# EAGLE library part AT91SAM7S*-MU (library X893)
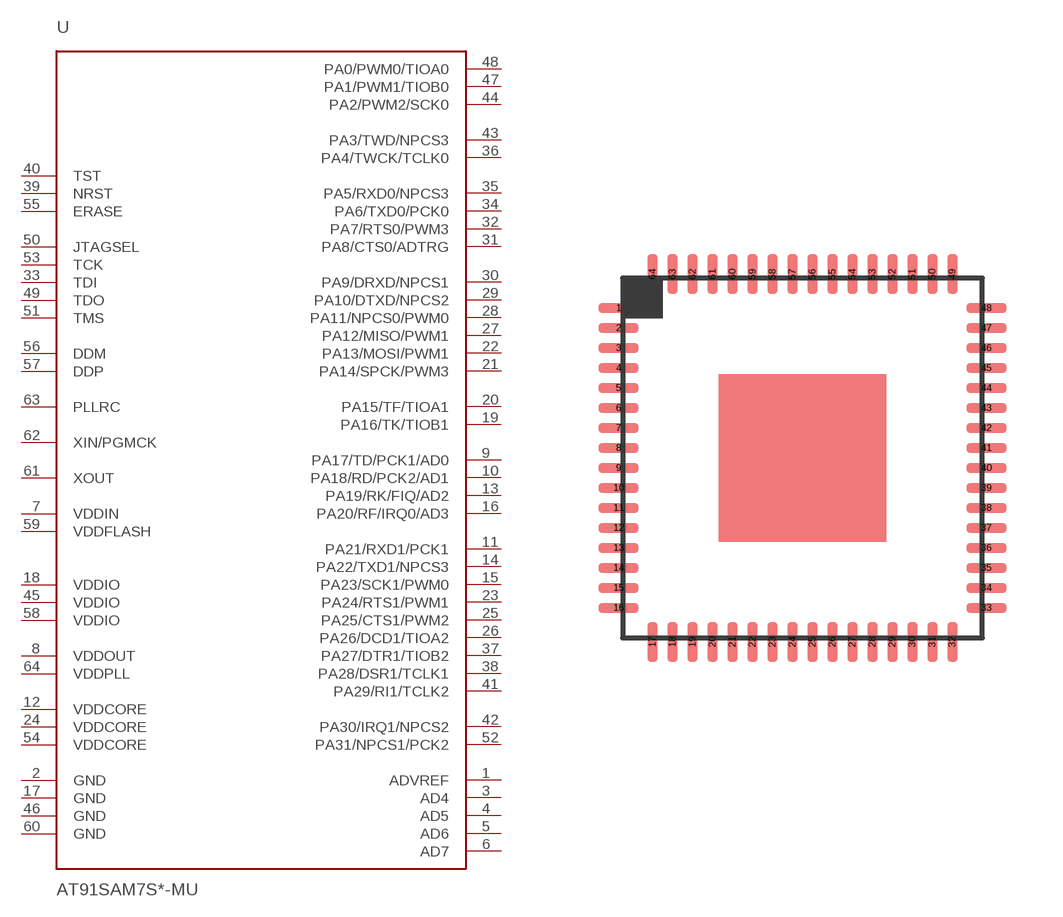
[diagram p61: symbol with the pads of QFN64-9X9; footprint QFN64-9X9]

Designator prefix U

## AT91SAM7S-MU  [QFN64-9X9]
1  ADVREF
2  GND  pwr
3  AD4
4  AD5
5  AD6
6  AD7
7  VDDIN
8  VDDOUT
9  PA17/TD/PCK1/AD0
10  PA18/RD/PCK2/AD1
11  PA21/RXD1/PCK1
12  VDDCORE
13  PA19/RK/FIQ/AD2
14  PA22/TXD1/NPCS3
15  PA23/SCK1/PWM0
16  PA20/RF/IRQ0/AD3
17  GND  pwr
18  VDDIO
19  PA16/TK/TIOB1
20  PA15/TF/TIOA1
21  PA14/SPCK/PWM3
22  PA13/MOSI/PWM1
23  PA24/RTS1/PWM1
24  VDDCORE
25  PA25/CTS1/PWM2
26  PA26/DCD1/TIOA2
27  PA12/MISO/PWM1
28  PA11/NPCS0/PWM0
29  PA10/DTXD/NPCS2
30  PA9/DRXD/NPCS1
31  PA8/CTS0/ADTRG
32  PA7/RTS0/PWM3
33  TDI  in
34  PA6/TXD0/PCK0
35  PA5/RXD0/NPCS3
36  PA4/TWCK/TCLK0
37  PA27/DTR1/TIOB2
38  PA28/DSR1/TCLK1
39  NRST
40  TST
41  PA29/RI1/TCLK2
42  PA30/IRQ1/NPCS2
43  PA3/TWD/NPCS3
44  PA2/PWM2/SCK0
45  VDDIO
46  GND  pwr
47  PA1/PWM1/TIOB0
48  PA0/PWM0/TIOA0
49  TDO  out
50  JTAGSEL  in
51  TMS  in
52  PA31/NPCS1/PCK2
53  TCK  in
54  VDDCORE
55  ERASE
56  DDM
57  DDP
58  VDDIO
59  VDDFLASH
60  GND  pwr
61  XOUT
62  XIN/PGMCK
63  PLLRC
64  VDDPLL

## Footprint QFN64-9X9 (pad centres in mm)
smd 1 x 0.25: 1 -4.6,3.75; 2 -4.6,3.25; 3 -4.6,2.75; 4 -4.6,2.25; 5 -4.6,1.75; 6 -4.6,1.25; 7 -4.6,0.75; 8 -4.6,0.25; 9 -4.6,-0.25; 10 -4.6,-0.75; 11 -4.6,-1.25; 12 -4.6,-1.75; 13 -4.6,-2.25; 14 -4.6,-2.75; 15 -4.6,-3.25; 16 -4.6,-3.75; 33 4.6,-3.75; 34 4.6,-3.25; 35 4.6,-2.75; 36 4.6,-2.25; 37 4.6,-1.75; 38 4.6,-1.25; 39 4.6,-0.75; 40 4.6,-0.25; 41 4.6,0.25; 42 4.6,0.75; 43 4.6,1.25; 44 4.6,1.75; 45 4.6,2.25; 46 4.6,2.75; 47 4.6,3.25; 48 4.6,3.75
smd 0.25 x 1: 17 -3.75,-4.6; 18 -3.25,-4.6; 19 -2.75,-4.6; 20 -2.25,-4.6; 21 -1.75,-4.6; 22 -1.25,-4.6; 23 -0.75,-4.6; 24 -0.25,-4.6; 25 0.25,-4.6; 26 0.75,-4.6; 27 1.25,-4.6; 28 1.75,-4.6; 29 2.25,-4.6; 30 2.75,-4.6; 31 3.25,-4.6; 32 3.75,-4.6; 49 3.75,4.6; 50 3.25,4.6; 51 2.75,4.6; 52 2.25,4.6; 53 1.75,4.6; 54 1.25,4.6; 55 0.75,4.6; 56 0.25,4.6; 57 -0.25,4.6; 58 -0.75,4.6; 59 -1.25,4.6; 60 -1.75,4.6; 61 -2.25,4.6; 62 -2.75,4.6; 63 -3.25,4.6; 64 -3.75,4.6